# EAGLE library part WEMOSD1MINI (library WemosD1mini)
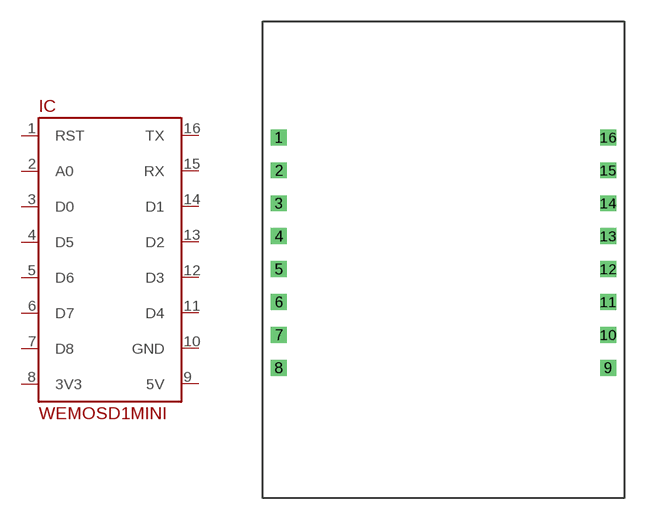
[diagram p0: symbol with the pads of ESP32_DIL16; footprint ESP32_DIL16]

Designator prefix IC

## WEMOSD1MINI  [ESP32_DIL16]
1  RST  in
2  A0
3  D0
4  D5
5  D6
6  D7
7  D8
8  3V3
9  5V  pwr
10  GND
11  D4
12  D3
13  D2
14  D1
15  RX
16  TX

## Footprint ESP32_DIL16 (pad centres in mm)
drill 0.6 square: 1 -19.05,5.08; 2 -19.05,2.78; 3 -19.05,0.48; 4 -19.05,-1.82; 5 -19.05,-4.12; 6 -19.05,-6.42; 7 -19.05,-8.72; 8 -19.05,-11.02; 9 3.95,-11.02; 10 3.95,-8.72; 11 3.95,-6.42; 12 3.95,-4.12; 13 3.95,-1.82; 14 3.95,0.48; 15 3.95,2.78; 16 3.95,5.08